# Altium integrated library L722RA.IntLib: 1 symbol
Pins are listed as number, name and electrical type; pins without a type are passive.

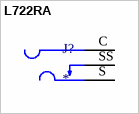
[diagram p0: symbol L722RA]

## L722RA
designator J?
Power Barrel Connector Jack 2.50mm ID (0.098"), 5.50mm OD (0.217") Panel Mount, Through Hole, Right Angle; MP: L722RA; Package: None; Price: None; Value: *; Availability: Unavailable
footprint SWITCHCRAFT_L722RA
pins: C CENTRE_PIN, S SLEEVE, SS SLEEVE_SHUNT